# Altium footprint library DFN.PcbLib: 1 footprints
Each footprint in its own frame and in the unit in brackets; x right, y up, seen from the top. Pads: shape width x height; smd on the part's side, far side on the other; paste and mask are expansions set on the pad; w line width, h text height; cw(c..) or ccw(c..) is an arc to the next point about the centre after c.
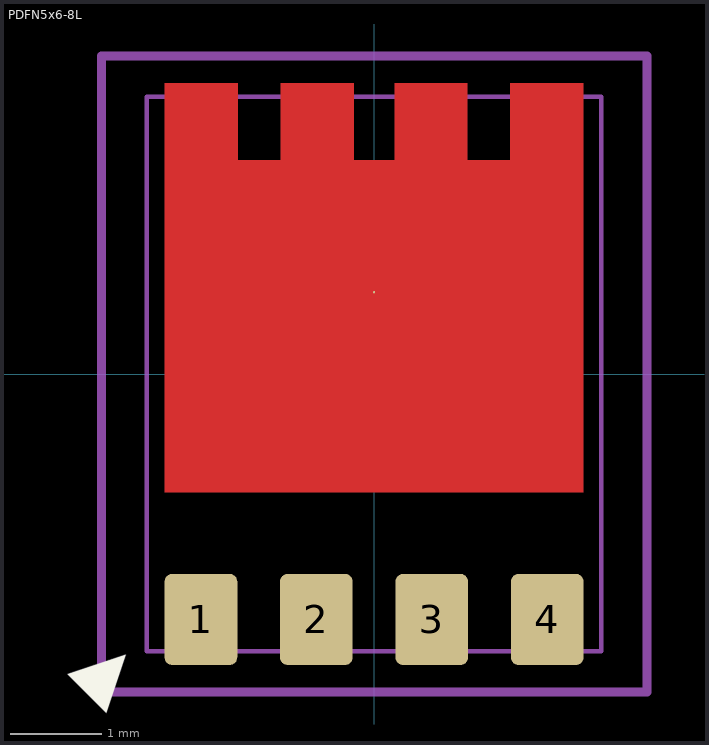
[diagram p0: the footprint, top view; thin cyan lines are the x and y axes]

## PDFN5x6-8L [mm]
height 2.39
pads (5):
  rrect20% 0.8x1 smd mask+0.05: 1(-1.905,-2.7) 2(-0.635,-2.7) 3(0.635,-2.7) 4(1.905,-2.7)
  round 0.025 smd mask+0.05: 5(0,0.9)
Top Layer:
  region: 1.5,3.2 1.5,2.35 1.025,2.35 1.025,3.2 0.225,3.2 0.225,2.35 -0.225,2.35 -0.225,3.2 -1.025,3.2 -1.025,2.35 -1.5,2.35 -1.5,3.2 -2.3,3.2 -2.3,-1.3 2.3,-1.3 2.3,3.2
Top Overlay:
  text "▲" at -3.442,-3.367 h1
Top Assembly:
  lines w0.05: -2.5,-3.05 2.5,-3.05 2.5,3.05 -2.5,3.05 -2.5,-3.05
Top Courtyard:
  lines w0.1: -3,-3.5 3,-3.5 3,3.5 -3,3.5 -3,-3.5
Top Component Center:
  lines w0.1: -0.5,0 0.5,0 ; 0,-0.5 0,0.5
3D body "DFN-8 6x5.step": height 1, standoff 0, extent -2.5,-3.05 2.5,3.05